# Altium footprint library WJ500V-5.08-2P.PcbLib: 1 footprints
Each footprint in its own frame and in the unit in brackets; x right, y up, seen from the top. Pads: shape width x height; smd on the part's side, far side on the other; paste and mask are expansions set on the pad; w line width, h text height; cw(c..) or ccw(c..) is an arc to the next point about the centre after c.
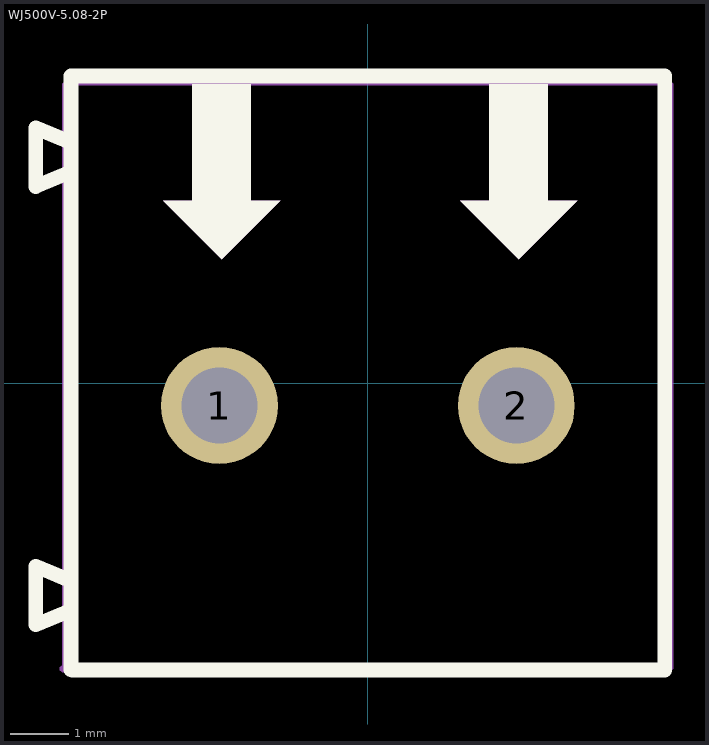
[diagram p0: the footprint, top view; thin cyan lines are the x and y axes]

## WJ500V-5.08-2P [mm]
pads (2):
  round 2 hole 1.3: 1(-2.54,-0.381) 2(2.54,-0.381)
Top Overlay:
  region: 2.08,5.119 3.08,5.119 3.08,3.119 3.58,3.119 2.58,2.119 1.58,3.119 2.08,3.119
  region: -3,5.119 -2,5.119 -2,3.119 -1.5,3.119 -2.5,2.119 -3.5,3.119 -3,3.119
  lines w0.254: -5.08,-4.901 -5.08,5.259 ; -5.08,-3.881 -5.68,-4.131 -5.68,-3.131 -5.08,-3.381 ; -5.08,3.619 -5.68,3.369 -5.68,4.369 -5.08,4.119 ; -5.054,-4.903 5.08,-4.903 5.08,5.257 -5.054,5.257
Mechanical 6:
  region: -3,5.119 -2,5.119 -2,3.119 -1.5,3.119 -2.5,2.119 -3.5,3.119 -3,3.119
  region: 2.08,5.119 3.08,5.119 3.08,3.119 3.58,3.119 2.58,2.119 1.58,3.119 2.08,3.119
Mechanical 15:
  region: -1.99,-0.381 -1.992,-0.273 -2.077,-0.073 -2.231,0.079 -2.432,0.161 -2.648,0.161 -2.849,0.079 -3.003,-0.073 -3.088,-0.273 -3.09,-0.381 -3.088,-0.489 -3.003,-0.688 -2.849,-0.841 -2.648,-0.923 -2.432,-0.923 -2.231,-0.841 -2.077,-0.689 -1.992,-0.489 -1.99,-0.381
  region: 3.09,-0.381 3.088,-0.273 3.003,-0.073 2.849,0.079 2.648,0.161 2.432,0.161 2.231,0.079 2.077,-0.073 1.992,-0.273 1.99,-0.381 1.992,-0.489 2.077,-0.688 2.231,-0.841 2.432,-0.923 2.648,-0.923 2.849,-0.841 3.003,-0.689 3.088,-0.489 3.09,-0.381
  region: -5.147,-4.881 -5.147,-4.856 -5.182,-4.821 -5.232,-4.821 -5.267,-4.856 -5.267,-4.881 -5.267,-4.906 -5.232,-4.941 -5.182,-4.941 -5.147,-4.906 -5.147,-4.881
  lines w0.051: -5.207,-4.881 -5.207,5.119 5.207,5.119 5.207,-4.881 -5.207,-4.881